# EAGLE library part 292227-8 (library te)
1.5mm AMP Mini CT Connectors
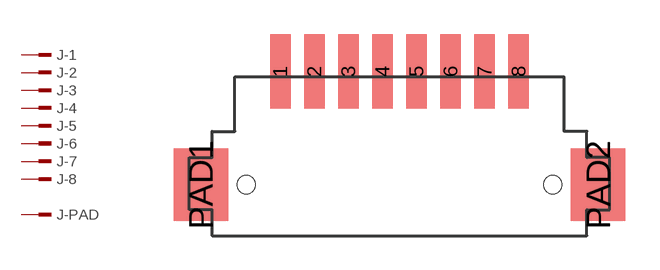
[diagram p5: symbol with the pads of 292227-8; footprint 292227-8]

Designator prefix J; gates -1=MPIN -2=MPIN -3=MPIN -4=MPIN -5=MPIN -6=MPIN -7=MPIN -8=MPIN -PAD=MPIN

## 292227-8 (DISTRIBUTOR: Digikey; OC_DIGIKEY: A98701CT-ND; ORDER_CODE: A98701CT-ND)  [292227-8]
1  -1:1  pas
2  -2:1  pas
3  -3:1  pas
4  -4:1  pas
5  -5:1  pas
6  -6:1  pas
7  -7:1  pas
8  -8:1  pas
PAD1  -PAD:1  pas
PAD2  -PAD:1  pas

## Footprint 292227-8 (pad centres in mm)
smd 0.9 x 3.3: 1 -5.25,5; 2 -3.75,5; 3 -2.25,5; 4 -0.75,5; 5 0.75,5; 6 2.25,5; 7 3.75,5; 8 5.25,5
smd 2.4 x 3.2: PAD1 -8.75,0; PAD2 8.75,0
hole 0.8 at 6.75,0
hole 0.8 at -6.75,0